# EAGLE library part PMP5201 (library borkedlabs-transistors)
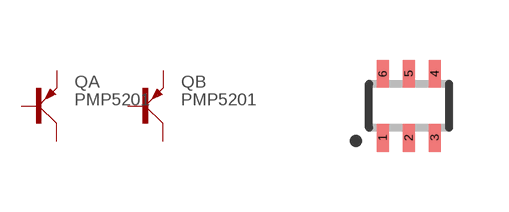
[diagram p2: symbol with the pads of SOT363; footprint SOT363]

Designator prefix Q; gates A=PNP B=PNP

## PMP5201Y (PACKAGE: SOT363)  [SOT363]
1  A:B  pas
2  B:B  pas
3  B:C  pas
4  B:E  pas
5  A:E  pas
6  A:C  pas

## Footprint SOT363 (pad centres in mm)
Small Outline Transistor; 6 leads Reflow soldering INFINEON, www.infineon.com/cmc_upload/0/000/010/257/eh_db_5b.pdf
smd 0.3 x 0.7: 1 -0.65,-0.8; 2 0,-0.8; 3 0.65,-0.8; 4 0.65,0.8; 5 0,0.8; 6 -0.65,0.8